# EAGLE library part SDS-ST2 (library relay)
RELAY polarity, 2 x norm. open, NAiS
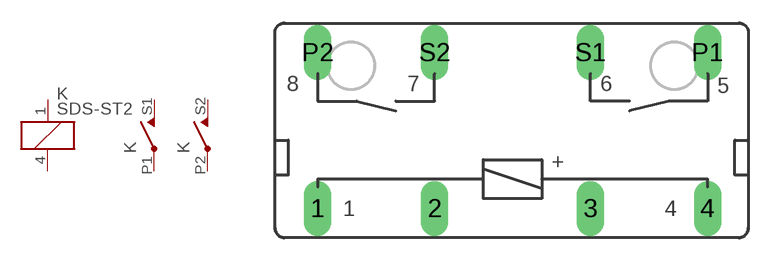
[diagram p11: symbol with the pads of SDS-ST2; footprint SDS-ST2]

Designator prefix K; gates 1=K 2=S 3=S

## SDS-ST2  [SDS-ST2]
1  1:1  pas
4  1:2  pas
P1  2:COM  pas
P2  3:COM  pas
S1  2:NO  pas
S2  3:NO  pas

## Footprint SDS-ST2 (pad centres in mm)
RELAY polarity, 2 x norm. open, NAiS
drill 1.194 long: 1 -12.7,-5.08; 2 -5.08,-5.08; 3 5.08,-5.08; 4 12.7,-5.08; P1 12.7,5.08; P2 -12.7,5.08; S1 5.08,5.08; S2 -5.08,5.08